# Altium footprint library R_4527_11570.PcbLib: 1 footprints
Each footprint in its own frame and in the unit in brackets; x right, y up, seen from the top. Pads: shape width x height; smd on the part's side, far side on the other; paste and mask are expansions set on the pad; w line width, h text height; cw(c..) or ccw(c..) is an arc to the next point about the centre after c.
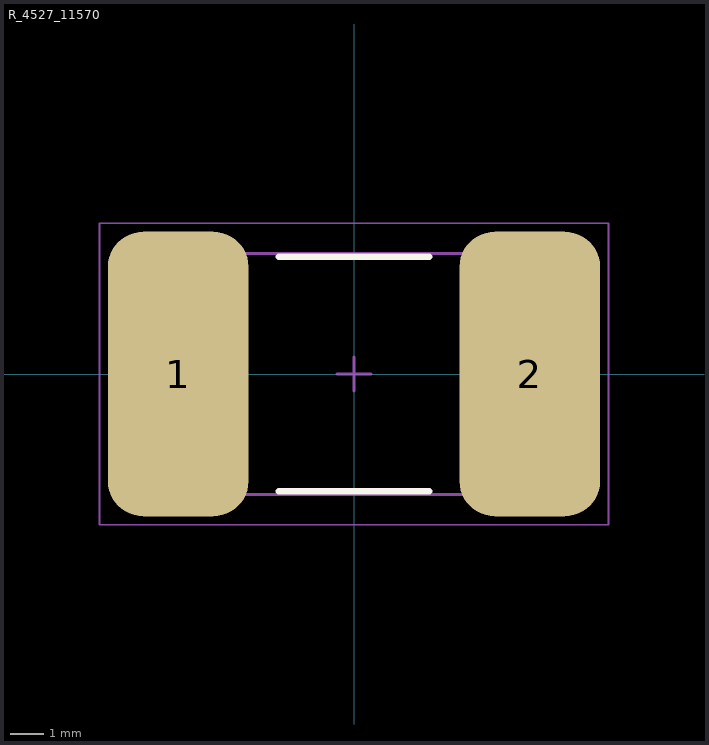
[diagram p0: the footprint, top view; thin cyan lines are the x and y axes]

## R_4527_11570 [mm] "Chip Resistor, 2-Leads, Body 11,50x7,00mm, IPC Medium Density"
height 2.6
pads (2):
  rrect50% 4.2x8.5 smd: 1(-5.25,0) 2(5.25,0)
Top Overlay:
  lines w0.2: -2.25,-3.5 2.25,-3.5 ; -2.25,3.5 2.25,3.5
Top Assembly:
  lines w0.1: -5.9,-3.6 -5.9,3.6 5.9,3.6 5.9,-3.6 -5.9,-3.6
Top Courtyard:
  lines w0.05: -7.6,-4.5 -7.6,4.5 7.6,4.5 7.6,-4.5 -7.6,-4.5
  lines w0.1: -0.5,0 0.5,0 ; 0,-0.5 0,0.5
3D body "R_4527_115701.step": height 2.6, standoff 0, extent -5.9,-3.6 5.9,3.6